# EAGLE library part TQ-L2 (library panasonic)
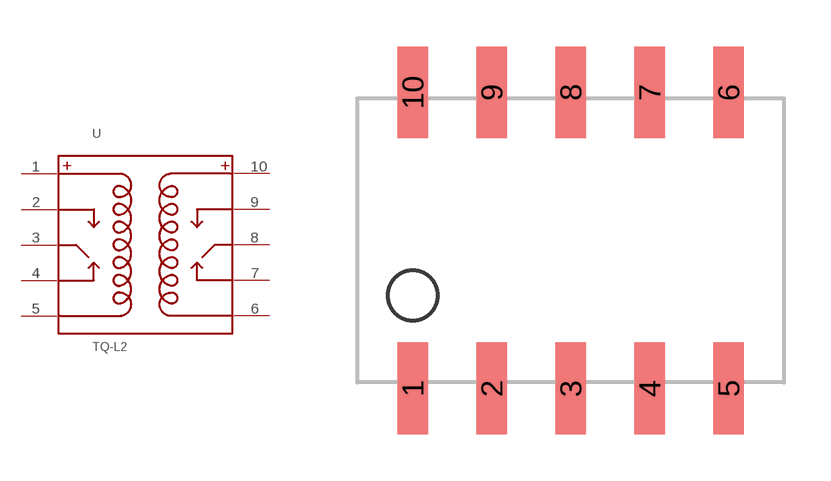
[diagram p0: symbol with the pads of SA; footprint SA]

Designator prefix -

## TQ-L2  [SA]
1  C1+
2  P1A
3  C1
4  P1B
5  C1-
6  C2-
7  P2B
8  C2
9  P2A
10  C2+

## Footprint SA (pad centres in mm)
smd 0.991 x 2.946: 1 -5.08,-4.763; 2 -2.54,-4.763; 3 0,-4.763; 4 2.54,-4.763; 5 5.08,-4.763; 6 5.08,4.763; 7 2.54,4.763; 8 0,4.763; 9 -2.54,4.763; 10 -5.08,4.763